# Altium integrated library TCAN3413DR1.IntLib: 1 symbol
Pins are listed as number, name and electrical type; pins without a type are passive.

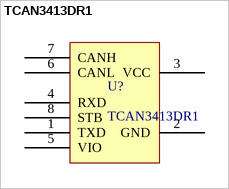
[diagram p0: symbol TCAN3413DR1]

## TCAN3413DR1
designator U?
footprint TCAN3413DR1
pins: 1 TXD, 2 GND, 3 VCC, 4 RXD, 5 VIO, 6 CANL, 7 CANH, 8 STB